# Altium integrated library Infineon_Power_Motor_Driver.IntLib: 100 symbols (part 4 of 7)
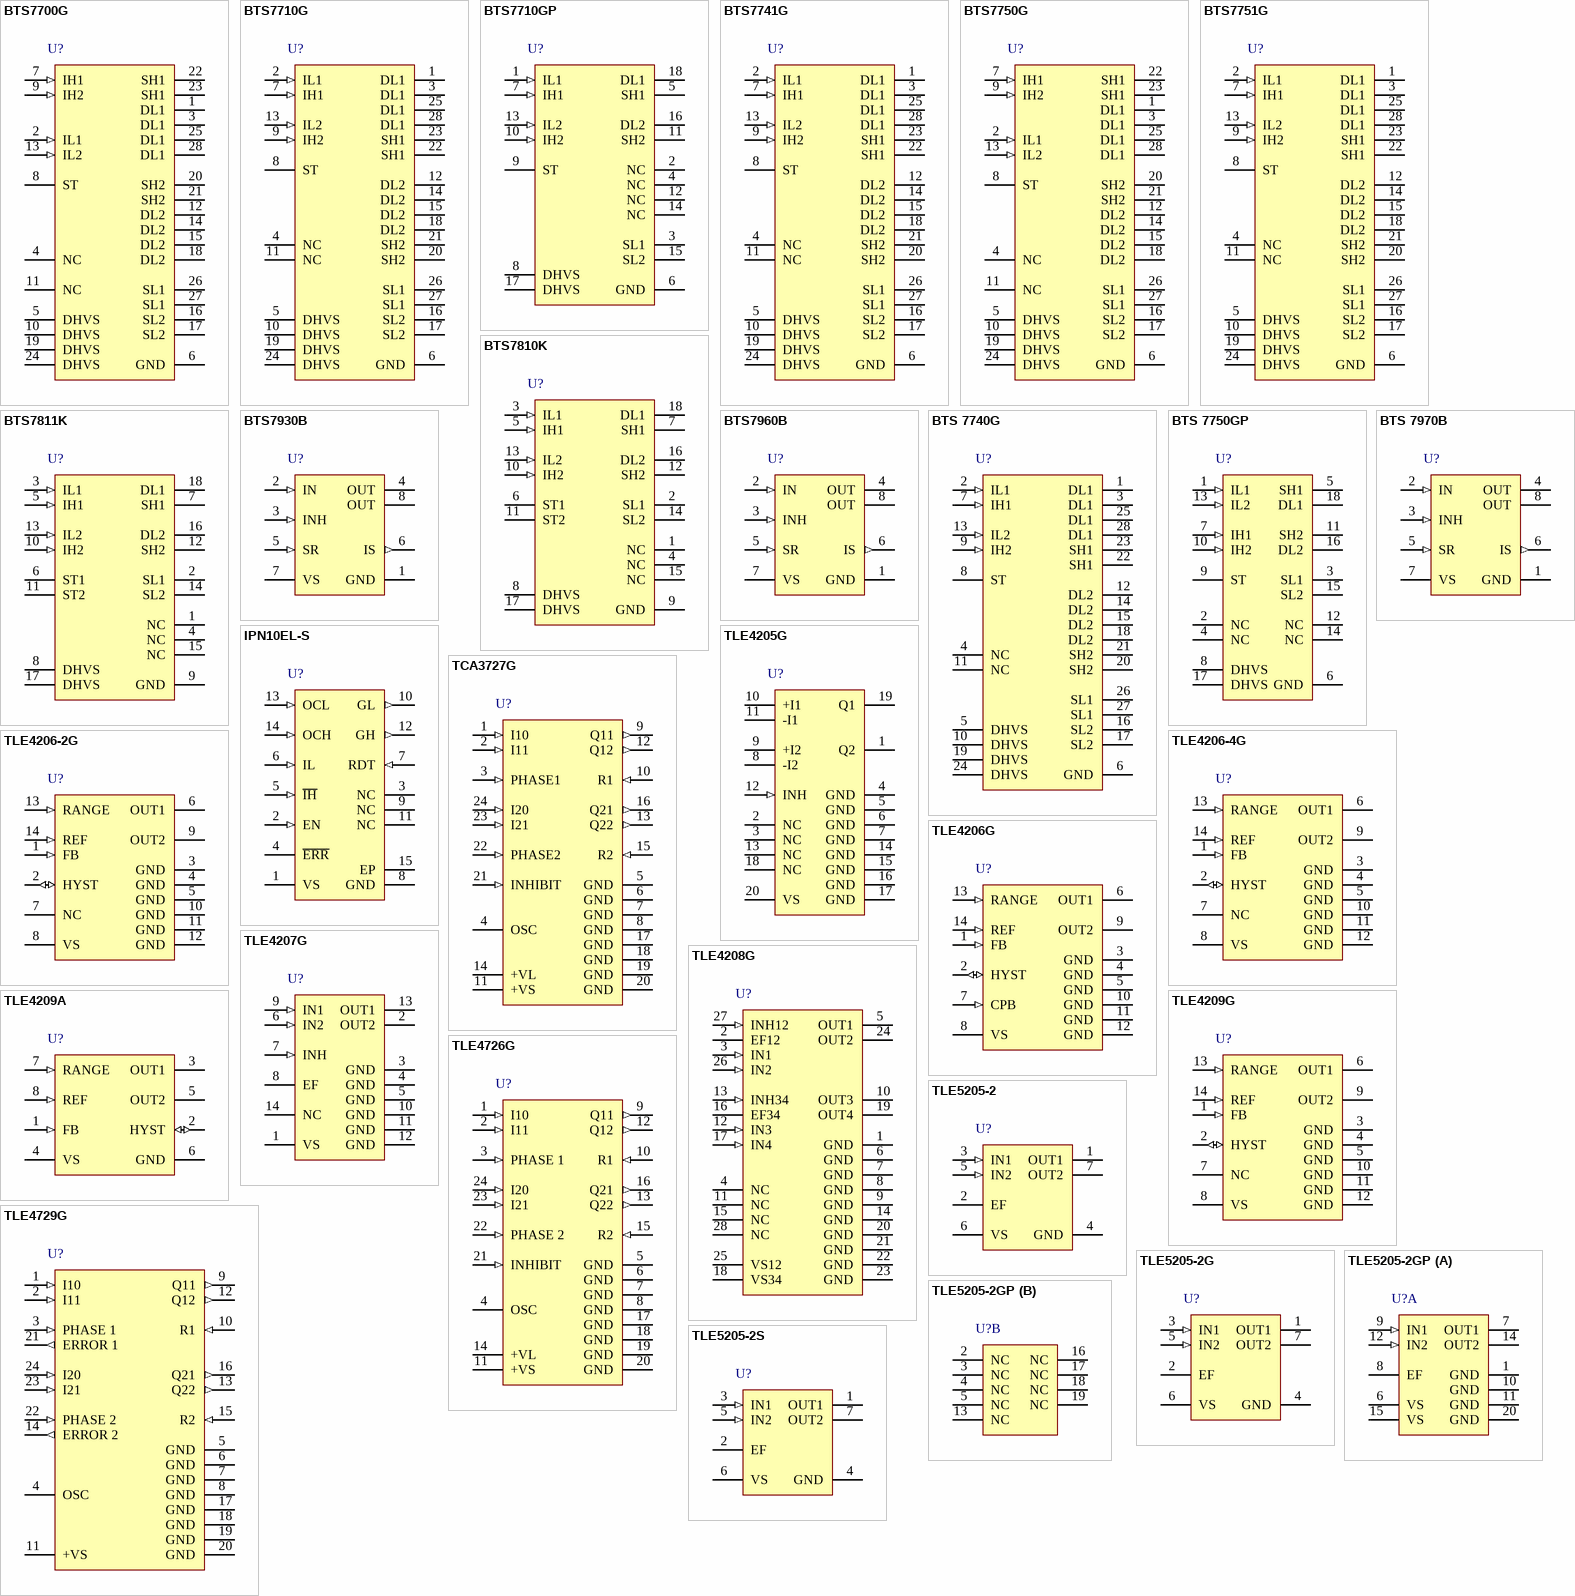
[diagram p7: symbols BTS7700G to TLE5205-2S]

## TLE4729G
designator U?
2-Phase Stepper Motor Driver Bipolar IC, -40 to 150 degC, PG-DSO-24-16, Reel, Green; Manufacturer: Infineon; PartNumber: TLE4729G; Green: TRUE; Inhibit: FALSE; IPeak: 2 x 1 A; Iq: 2 x 0.8 A; Protect: Overtemp. e.a.; DatasheetVersion: Rev. 1.2; PackageVersion: Mar-08; PackageReference: PG-DSO-24-16; PackageDescription: 24-Pin Plastic (Green) Dual Small Outline Package, 15.4 x 7.5 mm Body, 1.27 mm Pitch; Supplier 1: Mouser; Supplier Part Number 1: 726-TLE4729G; Supplier 2: Newark; Supplier Part Number 2: 47W3778; Supplier 3: Farnell; Supplier Part Number 3: 2215532; Supplier 4: Digi-Key; Supplier Part Number 4: TLE4729GINTR-ND; Supplier 5: Digi-Key; Supplier Part Number 5: TLE4729GINCT-ND; Supplier 6: Digi-Key; Supplier Part Number 6: TLE4729GINDKR-ND; Group: Stepper Motor Driver; Halogen-free: TRUE; Packing: Reel; Technology: Bipolar; Mounting Technology: Surface Mount; ComponentLink1Description: Manufacturer URL; ComponentLink1URL: http://www.infineon.com/; ComponentLink2Description: Datasheet; ComponentLink2URL: http://www.infineon.com/dgdl/DS_TLE4729G_Green_V1.2_2008-03-18.pdf?folderId=db3a3043156fd5730116144c5d101c30&fileId=db3a30431c48a312011c4c1099490019&location=en.Products.Automotive_ICs.Motor_Drivers__Automotive_.Integrated_Smart_Power_Motor_Drivers.DATASHEET.DS_TLE4729G_Green_V1.2_2008-03-18.pdf; ComponentLink3Description: Package Specification; ComponentLink3URL: http://www.infineon.com/dgdl/DS_TLE4729G_Green_V1.2_2008-03-18.pdf?folderId=db3a3043156fd5730116144c5d101c30&fileId=db3a30431c48a312011c4c1099490019&sId=db3a30433d68e984013d7c8a351f56f4
footprint INF-PG-DSO-24-16_N (SOP, 24-Leads, Body 15.4x7.5mm, Pitch 1.27mm, IPC Medium Density)
footprint INF-PG-DSO-24-16_L (SOP, 24-Leads, Body 15.4x7.5mm, Pitch 1.27mm, IPC High Density)
footprint INF-PG-DSO-24-16_M (SOP, 24-Leads, Body 15.4x7.5mm, Pitch 1.27mm, IPC Low Density)
pins: 1 I10 (in) "Digital control inputs IX0,IX1 for the magnitude of the current of the particular phase.", 2 I11 (in) "Digital control inputs IX0,IX1 for the magnitude of the current of the particular phase.", 3 PHASE 1 (in) "Input Phase 1; controls the current through phase winding 1. On H-potential the phase current flows from Q11 to Q12, on L-potential in the reverse direction.", 4 OSC "Oscillator; works at approx. 25 kHz if this pin is wired to ground across 2.2 nF.", 5 GND (power) "Ground; all pins are connected internally.", 6 GND (power) "Ground; all pins are connected internally.", 7 GND (power) "Ground; all pins are connected internally.", 8 GND (power) "Ground; all pins are connected internally.", 9 Q11 (out) "Push-pull outputs Q11, Q12 for phase 1 with integrated free-wheeling diodes.", 10 R1 (in) "Resistor R1  for sensing the current in phase 1.", 11 +VS (power) "Supply voltage; block to ground, as close as possible to the IC, with a stable electrolytic capacitor of at least 10 uF in parallel with a ceramic capacitor of 220 nF.", 12 Q12 (out) "Push-pull outputs Q11, Q12 for phase 1 with integrated free-wheeling diodes.", 13 Q22 (out) "Push-pull outputs Q22, Q21 for phase 2 with integrated free-wheeling diodes.", 14 ERROR 2 (out) "Error 2 output; signals with “low” the errors: short circuit to ground of  one or more outputs or over-temperature.", 15 R2 (in) "Resistor R2  for sensing the current in phase 2.", 16 Q21 (out) "Push-pull outputs Q22, Q21 for phase 2 with integrated free-wheeling diodes.", 17 GND (power) "Ground; all pins are connected internally.", 18 GND (power) "Ground; all pins are connected internally.", 19 GND (power) "Ground; all pins are connected internally.", 20 GND (power) "Ground; all pins are connected internally.", 21 ERROR 1 (out) "Error 1 output; signals with “low” the errors: open load or short circuit to  + VS of one or more outputs or short circuit of the load or overtemperature.", 22 PHASE 2 (in) "Input phase 2; controls the current flow through phase winding 2. On H-potential the phase current flows from Q21 to Q22, on L potential in the reverse direction.", 23 I21 (in) "Digital control inputs IX0,IX1 for the magnitude of the current of the particular phase.", 24 I20 (in) "Digital control inputs IX0,IX1 for the magnitude of the current of the particular phase."

## TLE5205-2
designator U?
5 A H-Bridge for DC-Motor Applications, 6 to 40 V, 220 mOhm RDS(on), PG-TO220-7-11, Tube, Green; Manufacturer: Infineon; PartNumber: TLE5205-2; Current Limit (min.): 6 A; Green: TRUE; Operating Range: 6 to 40 V; Quiescent Current (max.): 10 mA; RthJC (max): 3 K/W; DatasheetVersion: Rev. 1.1; PackageVersion: Jul-07; PackageReference: PG-TO220-7-11; PackageDescription: 7-Pin Plastic (Green) Transistor Single Outline Package, 10 x 9.25 mm Body, 1.27 mm Pitch; Supplier 1: Mouser; Supplier Part Number 1: 726-TLE52052; Supplier 2: Newark; Supplier Part Number 2: 47W3780; Supplier 3: Farnell; Supplier Part Number 3: 2215546; Supplier 4: Digi-Key; Supplier Part Number 4: TLE5205-2IN-ND; Halogen-free: TRUE; Packing: Tube; RDS (on) (typ./switch): 220 mOhm; Mounting Technology: Through Hole; ComponentLink1Description: Manufacturer URL; ComponentLink1URL: http://www.infineon.com/; ComponentLink2Description: Datasheet; ComponentLink2URL: http://www.infineon.com/dgdl/TLE5205-2_DS_11%5B1%5D.pdf?folderId=db3a30431b3e89eb011bb632994f065b&fileId=db3a30431f848401011fc747c7a0797f&location=en.Products.Automotive_ICs.Powertrain_ICs.Powertrain_H-Bridges_for_Electronic_Throttle_Control.DATASHEET.TLE5205-2_DS_11[1].pdf; ComponentLink3Description: Package Specification; ComponentLink3URL: http://www.infineon.com/dgdl/TLE5205-2_DS_11%5B1%5D.pdf?folderId=db3a30431b3e89eb011bb632994f065b&fileId=db3a30431f848401011fc747c7a0797f&sId=db3a30433d68e984013d7d43135b5b6a
footprint INF-PG-TO220-7-11 (FM, 7-Leads, Body 10x9.25mm, Pitch 1.27mm)
pins: 1 OUT1 (power) "Output of Channel 1; Short-circuit protected; integrated freewheeling diodes for inductive loads.", 2 EF (oc) "Error Flag; TTL/CMOS compatible output for error detection; (open drain)", 3 IN1 (in) "Control Input 1; TTL/CMOS compatible", 4 GND (power) "Ground; internally connected to tab", 5 IN2 (in) "Control Input 2; TTL/CMOS compatible", 6 VS (power) "Supply Voltage; block to GND", 7 OUT2 (power) "Output of Channel 2; Short-circuit protected; integrated freewheeling diodes for inductive loads."

## TLE5205-2G
designator U?
5 A H-Bridge for DC-Motor Applications, 6 to 40 V, 220 mOhm RDS(on), PG-TO263-7-1, Reel, Green; Manufacturer: Infineon; PartNumber: TLE5205-2G; Current Limit (min.): 6 A; Green: TRUE; Operating Range: 6 to 40 V; Quiescent Current (max.): 10 mA; RthJC (max): 3 K/W; DatasheetVersion: Rev. 1.1; PackageVersion: May-07; PackageReference: PG-TO263-7-1; PackageDescription: 7-Pin Plastic (Green) Transistor Single Outline Package, 9.25 x 10 mm Body, 1.27 mm Pitch; Supplier 1: Mouser; Supplier Part Number 1: 726-TLE52052G; Supplier 2: Newark; Supplier Part Number 2: 78X5470; Supplier 3: Farnell; Supplier Part Number 3: 2432520; Supplier 4: Digi-Key; Supplier Part Number 4: TLE5205-2GINTR-ND; Supplier 5: Digi-Key; Supplier Part Number 5: TLE5205-2GINCT-ND; Supplier 6: Digi-Key; Supplier Part Number 6: TLE5205-2GINDKR-ND; Halogen-free: TRUE; Packing: Reel; RDS (on) (typ./switch): 220 mOhm; Mounting Technology: Surface Mount; ComponentLink1Description: Manufacturer URL; ComponentLink1URL: http://www.infineon.com/; ComponentLink2Description: Datasheet; ComponentLink2URL: http://www.infineon.com/dgdl/TLE5205-2_DS_11%5B1%5D.pdf?folderId=db3a30431b3e89eb011bb632994f065b&fileId=db3a30431f848401011fc747c7a0797f&location=en.Products.Automotive_ICs.Powertrain_ICs.Powertrain_H-Bridges_for_Electronic_Throttle_Control.DATASHEET.TLE5205-2_DS_11[1].pdf; ComponentLink3Description: Package Specification; ComponentLink3URL: http://www.infineon.com/dgdl/TLE5205-2_DS_11%5B1%5D.pdf?folderId=db3a30431b3e89eb011bb632994f065b&fileId=db3a30431f848401011fc747c7a0797f&sId=db3a30433d68e984013d7d43135b5b6a
footprint INF-PG-TO263-7-1_N (DPAK, 8-Leads, Body 10x9.25mm, Pitch 1.27mm, IPC Medium Density)
footprint INF-PG-TO263-7-1_L (DPAK, 8-Leads, Body 10x9.25mm, Pitch 1.27mm, IPC High Density)
footprint INF-PG-TO263-7-1_M (DPAK, 8-Leads, Body 10x9.25mm, Pitch 1.27mm, IPC Low Density)
pins: 1 OUT1 (power) "Output of Channel 1; Short-circuit protected; integrated freewheeling diodes for inductive loads.", 2 EF (oc) "Error Flag; TTL/CMOS compatible output for error detection; (open drain)", 3 IN1 (in) "Control Input 1; TTL/CMOS compatible", 4 GND (power) "Ground; internally connected to tab", 5 IN2 (in) "Control Input 2; TTL/CMOS compatible", 6 VS (power) "Supply Voltage; block to GND", 7 OUT2 (power) "Output of Channel 2; Short-circuit protected; integrated freewheeling diodes for inductive loads."

## TLE5205-2GP
designator U?
5 A H-Bridge for DC-Motor Applications, 6 to 40 V, 220 mOhm RDS(on), PG-DSO-20-37, Reel, Green; Manufacturer: Infineon; PartNumber: TLE5205-2GP; Current Limit (min.): 6 A; Green: TRUE; Operating Range: 6 to 40 V; Quiescent Current (max.): 10 mA; RthJC (max): 5 K/W; DatasheetVersion: Rev. 1.1; PackageReference: PG-DSO-20-37; PackageDescription: 20-Pin Plastic (Green) Dual Small Outline Package, 15.9 x 11 mm Body, 1.27 mm Pitch; Supplier 1: Mouser; Supplier Part Number 1: 726-TLE52052GP; Supplier 2: Digi-Key; Supplier Part Number 2: TLE5205-2GPTR-ND; Supplier 3: Digi-Key; Supplier Part Number 3: TLE5205-2GPCT-ND; Supplier 4: Digi-Key; Supplier Part Number 4: TLE5205-2GPDKR-ND; Halogen-free: TRUE; Packing: Reel; RDS (on) (typ./switch): 220 mOhm; Mounting Technology: Surface Mount; ComponentLink1Description: Manufacturer URL; ComponentLink1URL: http://www.infineon.com/; ComponentLink2Description: Datasheet; ComponentLink2URL: http://www.infineon.com/dgdl/TLE5205-2_DS_11%5B1%5D.pdf?folderId=db3a30431b3e89eb011bb632994f065b&fileId=db3a30431f848401011fc747c7a0797f&location=en.Products.Automotive_ICs.Powertrain_ICs.Powertrain_H-Bridges_for_Electronic_Throttle_Control.DATASHEET.TLE5205-2_DS_11[1].pdf; ComponentLink3Description: Package Specification; ComponentLink3URL: http://www.infineon.com/cms/packages/SMD_-_Surface_Mounted_Devices/P-PG-DSO/P-PG-DSO-20-10x_-12x_-13x_-16x_-33x_-34x_-37x_-48x_-50.html?__locale=en
footprint INF-PG-DSO-20-37_N (SOP, 20-Leads, Body 15.9x11mm, Pitch 1.27mm, Thermal Pad 15.84x6mm, IPC Medium Density)
footprint INF-PG-DSO-20-37_L (SOP, 20-Leads, Body 15.9x11mm, Pitch 1.27mm, Thermal Pad 15.84x6mm, IPC High Density)
footprint INF-PG-DSO-20-37_M (SOP, 20-Leads, Body 15.9x11mm, Pitch 1.27mm, Thermal Pad 15.84x6mm, IPC Low Density)
part A pins: 1 GND (power) "Ground; internally connected to tab", 6 VS (power) "Supply Voltage; block to GND", 7 OUT1 (power) "Output of Channel 1; Short-circuit protected; integrated freewheeling diodes for inductive loads.", 8 EF (oc) "Error Flag; TTL/CMOS compatible output for error detection; (open drain)", 9 IN1 (in) "Control Input 1; TTL/CMOS compatible", 10 GND (power) "Ground; internally connected to tab", 11 GND (power) "Ground; internally connected to tab", 12 IN2 (in) "Control Input 2; TTL/CMOS compatible", 14 OUT2 (power) "Output of Channel 2; Short-circuit protected; integrated freewheeling diodes for inductive loads.", 15 VS (power) "Supply Voltage; block to GND", 20 GND (power) "Ground; internally connected to tab"
part B pins: 2 NC "Not Connected", 3 NC "Not Connected", 4 NC "Not Connected", 5 NC "Not Connected", 13 NC "Not Connected", 16 NC "Not Connected", 17 NC "Not Connected", 18 NC "Not Connected", 19 NC "Not Connected"

## TLE5205-2S
designator U?
5 A H-Bridge for DC-Motor Applications, 6 to 40 V, 220 mOhm RDS(on), PG-TO220-7-12, Tube, Green; Manufacturer: Infineon; PartNumber: TLE5205-2S; Current Limit (min.): 6 A; Green: TRUE; Operating Range: 6 to 40 V; Quiescent Current (max.): 10 mA; RthJC (max): 3 K/W; DatasheetVersion: Rev. 1.1; PackageVersion: Jul-07; PackageReference: PG-TO220-7-12; PackageDescription: 7-Pin Plastic (Green) Transistor Single Outline Package, 10 x 9.25 mm Body, 1.27 mm Pitch; Supplier 1: Mouser; Supplier Part Number 1: 726-TLE52052S; Supplier 2: Digi-Key; Supplier Part Number 2: TLE5205-2S-ND; Halogen-free: TRUE; Packing: Tube; RDS (on) (typ./switch): 220 mOhm; Mounting Technology: Through Hole; ComponentLink1Description: Manufacturer URL; ComponentLink1URL: http://www.infineon.com/; ComponentLink2Description: Datasheet; ComponentLink2URL: http://www.infineon.com/dgdl/TLE5205-2_DS_11%5B1%5D.pdf?folderId=db3a30431b3e89eb011bb632994f065b&fileId=db3a30431f848401011fc747c7a0797f&location=en.Products.Automotive_ICs.Powertrain_ICs.Powertrain_H-Bridges_for_Electronic_Throttle_Control.DATASHEET.TLE5205-2_DS_11[1].pdf; ComponentLink3Description: Package Specification; ComponentLink3URL: http://www.infineon.com/dgdl/TLE5205-2_DS_11%5B1%5D.pdf?folderId=db3a30431b3e89eb011bb632994f065b&fileId=db3a30431f848401011fc747c7a0797f&sId=db3a30433d68e984013d7d43135b5b6a
footprint INF-PG-TO220-7-12 (FM, 7-Leads, Body 10x4.4mm, Pitch 1.27mm)
pins: 1 OUT1 (power) "Output of Channel 1; Short-circuit protected; integrated freewheeling diodes for inductive loads.", 2 EF (oc) "Error Flag; TTL/CMOS compatible output for error detection; (open drain)", 3 IN1 (in) "Control Input 1; TTL/CMOS compatible", 4 GND (power) "Ground; internally connected to tab", 5 IN2 (in) "Control Input 2; TTL/CMOS compatible", 6 VS (power) "Supply Voltage; block to GND", 7 OUT2 (power) "Output of Channel 2; Short-circuit protected; integrated freewheeling diodes for inductive loads."

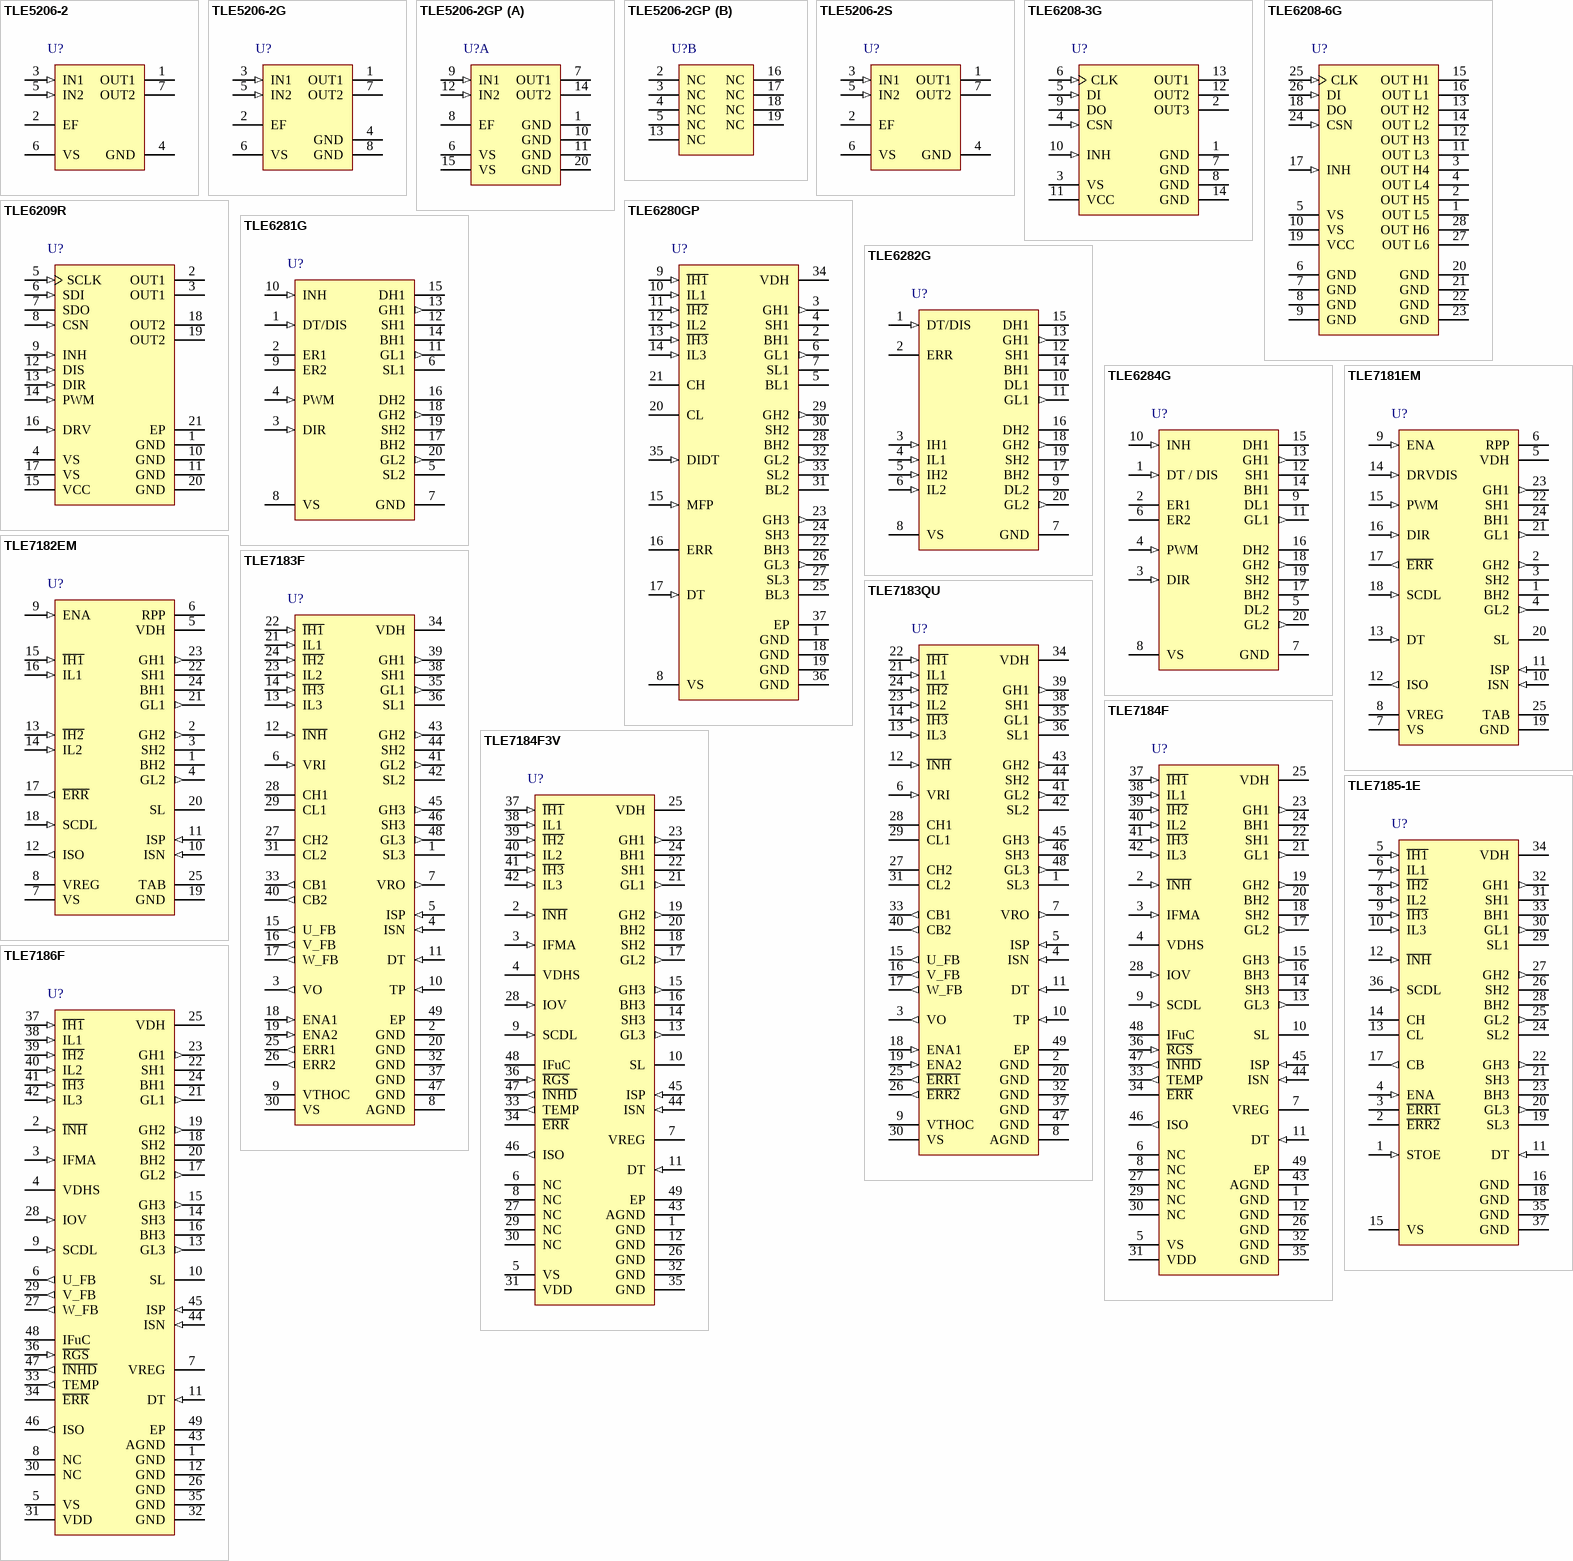
[diagram p2: symbols TLE5206-2 to TLE7186F]

## TLE5206-2
designator U?
5 A H-Bridge for DC-Motor Applications, 6 to 40 V, 220 mOhm RDS(on), PG-TO220-7-11, Tube, Green; Manufacturer: Infineon; PartNumber: TLE5206-2; Current Limit (min.): 6 A; Green: TRUE; Operating Range: 6 to 40 V; Quiescent Current (max.): 10 mA; RthJC (max): 3 K/W; DatasheetVersion: Rev. 1.1; PackageVersion: Jul-07; PackageReference: PG-TO220-7-11; PackageDescription: 7-Pin Plastic (Green) Transistor Single Outline Package, 10 x 9.25 mm Body, 1.27 mm Pitch; Supplier 1: Mouser; Supplier Part Number 1: 726-TLE52062; Supplier 2: Newark; Supplier Part Number 2: 47W3781; Supplier 3: Farnell; Supplier Part Number 3: 2215547; Supplier 4: Digi-Key; Supplier Part Number 4: TLE5206-2IN-ND; Halogen-free: TRUE; Packing: Tube; RDS (on) (typ./switch): 220 mOhm; Mounting Technology: Through Hole; ComponentLink1Description: Manufacturer URL; ComponentLink1URL: http://www.infineon.com/; ComponentLink2Description: Datasheet; ComponentLink2URL: http://www.infineon.com/dgdl/TLE5206-2_DS_11%5B1%5D.pdf?folderId=db3a30431b3e89eb011bb632994f065b&fileId=db3a30431f848401011fc753a71779a7&location=en.Products.Automotive_ICs.Powertrain_ICs.Powertrain_H-Bridges_for_Electronic_Throttle_Control.DATASHEET.TLE5206-2_DS_11[1].pdf; ComponentLink3Description: Package Specification; ComponentLink3URL: http://www.infineon.com/dgdl/TLE5205-2_DS_11%5B1%5D.pdf?folderId=db3a30431b3e89eb011bb632994f065b&fileId=db3a30431f848401011fc747c7a0797f&sId=db3a30433d68e984013d7d43135b5b6a
footprint INF-PG-TO220-7-11 (FM, 7-Leads, Body 10x9.25mm, Pitch 1.27mm)
pins: 1 OUT1 (power) "Output of Channel 1; Short-circuit protected; integrated freewheeling diodes for inductive loads.", 2 EF (oc) "Error Flag; TTL/CMOS compatible output for error detection; (open drain)", 3 IN1 (in) "Control Input 1; TTL/CMOS compatible", 4 GND (power) "Ground; internally connected to tab", 5 IN2 (in) "Control Input 2; TTL/CMOS compatible", 6 VS (power) "Supply Voltage; block to GND", 7 OUT2 (power) "Output of Channel 2; Short-circuit protected; integrated freewheeling diodes for inductive loads."

## TLE5206-2G
designator U?
5 A H-Bridge for DC-Motor Applications, 6 to 40 V, 220 mOhm RDS(on), PG-TO263-7-1, Reel, Green; Manufacturer: Infineon; PartNumber: TLE5206-2G; Current Limit (min.): 6 A; Green: TRUE; Operating Range: 6 to 40 V; Quiescent Current (max.): 10 mA; RthJC (max): 3 K/W; DatasheetVersion: Rev. 1.1; PackageVersion: May-07; PackageReference: PG-TO263-7-1; PackageDescription: 7-Pin Plastic (Green) Transistor Single Outline Package, 9.25 x 10 mm Body, 1.27 mm Pitch; Supplier 1: Mouser; Supplier Part Number 1: 726-TLE52062G; Supplier 2: Digi-Key; Supplier Part Number 2: TLE5206-2GTR-ND; Supplier 3: Digi-Key; Supplier Part Number 3: TLE5206-2GCT-ND; Supplier 4: Digi-Key; Supplier Part Number 4: TLE5206-2GDKR-ND; Halogen-free: TRUE; Packing: Reel; RDS (on) (typ./switch): 220 mOhm; Mounting Technology: Surface Mount; ComponentLink1Description: Manufacturer URL; ComponentLink1URL: http://www.infineon.com/; ComponentLink2Description: Datasheet; ComponentLink2URL: http://www.infineon.com/dgdl/TLE5206-2_DS_11%5B1%5D.pdf?folderId=db3a30431b3e89eb011bb632994f065b&fileId=db3a30431f848401011fc753a71779a7&location=en.Products.Automotive_ICs.Powertrain_ICs.Powertrain_H-Bridges_for_Electronic_Throttle_Control.DATASHEET.TLE5206-2_DS_11[1].pdf; ComponentLink3Description: Package Specification; ComponentLink3URL: http://www.infineon.com/dgdl/TLE5205-2_DS_11%5B1%5D.pdf?folderId=db3a30431b3e89eb011bb632994f065b&fileId=db3a30431f848401011fc747c7a0797f&sId=db3a30433d68e984013d7d43135b5b6a
footprint INF-PG-TO263-7-1_N (DPAK, 8-Leads, Body 10x9.25mm, Pitch 1.27mm, IPC Medium Density)
footprint INF-PG-TO263-7-1_L (DPAK, 8-Leads, Body 10x9.25mm, Pitch 1.27mm, IPC High Density)
footprint INF-PG-TO263-7-1_M (DPAK, 8-Leads, Body 10x9.25mm, Pitch 1.27mm, IPC Low Density)
pins: 1 OUT1 (power) "Output of Channel 1; Short-circuit protected; integrated freewheeling diodes for inductive loads", 2 EF (oc) "Error Flag; TTL/CMOS compatible output for error detection; (open drain)", 3 IN1 (in) "Control Input 1; TTL/CMOS compatible", 4 GND (power) "Ground; internally connected to tab", 5 IN2 (in) "Control Input 2; TTL/CMOS compatible", 6 VS (power) "Supply Voltage; block to GND", 7 OUT2 (power) "Output of Channel 2; Short-circuit protected;  integrated freewheeling diodes for inductive loads.", 8 GND (power) "Ground; internally connected to tab"

## TLE5206-2GP
designator U?
5 A H-Bridge for DC-Motor Applications, 6 to 40 V, 220 mOhm RDS(on), PG-DSO-20-37, Reel, Green; Manufacturer: Infineon; PartNumber: TLE5206-2GP; Current Limit (min.): 6 A; Green: TRUE; Operating Range: 6 to 40 V; Quiescent Current (max.): 10 mA; RthJC (max): 5 K/W; DatasheetVersion: Rev. 1.1; PackageReference: PG-DSO-20-37; PackageDescription: 20-Pin Plastic (Green) Dual Small Outline Package, 15.9 x 11 mm Body, 1.27 mm Pitch; Supplier 1: Mouser; Supplier Part Number 1: 726-TLE5206-2GP; Supplier 2: Digi-Key; Supplier Part Number 2: TLE5206-2GP-ND; Halogen-free: TRUE; Packing: Reel; RDS (on) (typ./switch): 220 mOhm; Mounting Technology: Surface Mount; ComponentLink1Description: Manufacturer URL; ComponentLink1URL: http://www.infineon.com/; ComponentLink2Description: Datasheet; ComponentLink2URL: http://www.infineon.com/dgdl/TLE5206-2_DS_11%5B1%5D.pdf?folderId=db3a30431b3e89eb011bb632994f065b&fileId=db3a30431f848401011fc753a71779a7&location=en.Products.Automotive_ICs.Powertrain_ICs.Powertrain_H-Bridges_for_Electronic_Throttle_Control.DATASHEET.TLE5206-2_DS_11[1].pdf; ComponentLink3Description: Package Specification; ComponentLink3URL: http://www.infineon.com/cms/packages/SMD_-_Surface_Mounted_Devices/P-PG-DSO/P-PG-DSO-20-10x_-12x_-13x_-16x_-33x_-34x_-37x_-48x_-50.html?__locale=en
footprint INF-PG-DSO-20-37_N (SOP, 20-Leads, Body 15.9x11mm, Pitch 1.27mm, Thermal Pad 15.84x6mm, IPC Medium Density)
footprint INF-PG-DSO-20-37_L (SOP, 20-Leads, Body 15.9x11mm, Pitch 1.27mm, Thermal Pad 15.84x6mm, IPC High Density)
footprint INF-PG-DSO-20-37_M (SOP, 20-Leads, Body 15.9x11mm, Pitch 1.27mm, Thermal Pad 15.84x6mm, IPC Low Density)
part A pins: 1 GND (power) "Ground; internally connected to tab", 6 VS (power) "Supply Voltage; block to GND", 7 OUT1 (power) "Output of Channel 1; Short-circuit protected; integrated freewheeling diodes for inductive loads.", 8 EF (oc) "Error Flag; TTL/CMOS compatible output for error detection; (open drain)", 9 IN1 (in) "Control Input 1; TTL/CMOS compatible", 10 GND (power) "Ground; internally connected to tab", 11 GND (power) "Ground; internally connected to tab", 12 IN2 (in) "Control Input 2; TTL/CMOS compatible", 14 OUT2 (power) "Output of Channel 2; Short-circuit protected; integrated freewheeling diodes for inductive loads.", 15 VS (power) "Supply Voltage; block to GND", 20 GND (power) "Ground; internally connected to tab"
part B pins: 2 NC "Not Connected", 3 NC "Not Connected", 4 NC "Not Connected", 5 NC "Not Connected", 13 NC "Not Connected", 16 NC "Not Connected", 17 NC "Not Connected", 18 NC "Not Connected", 19 NC "Not Connected"

## TLE5206-2S
designator U?
5 A H-Bridge for DC-Motor Applications, 6 to 40 V, 220 mOhm RDS(on), PG-TO220-7-12, Tube, Green; Manufacturer: Infineon; PartNumber: TLE5206-2S; Current Limit (min.): 6 A; Green: TRUE; Operating Range: 6 to 40 V; Quiescent Current (max.): 10 mA; RthJC (max): 3 K/W; DatasheetVersion: Rev. 1.1; PackageVersion: Jul-07; PackageReference: PG-TO220-7-12; PackageDescription: 7-Pin Plastic (Green) Transistor Single Outline Package, 10 x 9.25 mm Body, 1.27 mm Pitch; Supplier 1: Mouser; Supplier Part Number 1: 726-TLE52062S; Supplier 2: Newark; Supplier Part Number 2: 47W3782; Supplier 3: Farnell; Supplier Part Number 3: 2215549; Supplier 4: Digi-Key; Supplier Part Number 4: TLE5206-2S-ND; Halogen-free: TRUE; Packing: Tube; RDS (on) (typ./switch): 220 mOhm; Mounting Technology: Through Hole; ComponentLink1Description: Manufacturer URL; ComponentLink1URL: http://www.infineon.com/; ComponentLink2Description: Datasheet; ComponentLink2URL: http://www.infineon.com/dgdl/TLE5206-2_DS_11%5B1%5D.pdf?folderId=db3a30431b3e89eb011bb632994f065b&fileId=db3a30431f848401011fc753a71779a7&location=en.Products.Automotive_ICs.Powertrain_ICs.Powertrain_H-Bridges_for_Electronic_Throttle_Control.DATASHEET.TLE5206-2_DS_11[1].pdf; ComponentLink3Description: Package Specification; ComponentLink3URL: http://www.infineon.com/dgdl/TLE5205-2_DS_11%5B1%5D.pdf?folderId=db3a30431b3e89eb011bb632994f065b&fileId=db3a30431f848401011fc747c7a0797f&sId=db3a30433d68e984013d7d43135b5b6a
footprint INF-PG-TO220-7-12 (FM, 7-Leads, Body 10x4.4mm, Pitch 1.27mm)
pins: 1 OUT1 (power) "Output of Channel 1; Short-circuit protected; integrated freewheeling diodes for inductive loads.", 2 EF (oc) "Error Flag; TTL/CMOS compatible output for error detection; (open drain)", 3 IN1 (in) "Control Input 1; TTL/CMOS compatible", 4 GND (power) "Ground; internally connected to tab", 5 IN2 (in) "Control Input 2; TTL/CMOS compatible", 6 VS (power) "Supply Voltage; block to GND", 7 OUT2 (power) "Output of Channel 2; Short-circuit protected; integrated freewheeling diodes for inductive loads."

## TLE6208-3G
designator U?
Triple Half-Bridge Driver IC, -40 to 150 degC, PG-DSO-14-35, Reel, Green; Manufacturer: Infineon; PartNumber: TLE6208-3G; Green: TRUE; Group: Multi Half Bridges; IPeak: 3 x 1.2 A; Iq: 3 x 0.6 A; Iq (typ): 10 uA; Protect: short circuit e.a.; DatasheetVersion: Rev. 1.1; PackageVersion: Sep-07; PackageReference: PG-DSO-14-35; PackageDescription: 14-Pin Plastic (Green) Dual Small Outline Package, 8.65 x 3.9 mm Body, 1.27 mm Pitch; Supplier 1: Mouser; Supplier Part Number 1: 726-TLE62083G; Supplier 2: Digi-Key; Supplier Part Number 2: TLE6208-3GTR-ND; Supplier 3: Digi-Key; Supplier Part Number 3: TLE6208-3GCT-ND; Supplier 4: Digi-Key; Supplier Part Number 4: TLE6208-3GDKR-ND; Halogen-free: TRUE; Inhibit: TRUE; Packing: Reel; Technology: BCD; Mounting Technology: Surface Mount; ComponentLink1Description: Manufacturer URL; ComponentLink1URL: http://www.infineon.com/; ComponentLink2Description: Datasheet; ComponentLink2URL: http://www.infineon.com/dgdl/TLE6208-3G_DS_11.pdf?folderId=db3a3043156fd5730116144c5d101c30&fileId=db3a30431c48a312011c4b9607517fea&location=en.Products.Automotive_ICs.Motor_Drivers__Automotive_.Integrated_Smart_Power_Motor_Drivers.DATASHEET.TLE6208-3G_DS_11.pdf; ComponentLink3Description: Package Specification; ComponentLink3URL: http://www.infineon.com/dgdl/TLE6208-3G_DS_11.pdf?folderId=db3a3043156fd5730116144c5d101c30&fileId=db3a30431c48a312011c4b9607517fea&sId=db3a30443d67b5ca013d7fd417892bf0
footprint INF-PG-DSO-14-35_N (SOP, 14-Leads, Body 8.65x3.9mm, Pitch 1.27mm, IPC Medium Density)
footprint INF-PG-DSO-14-35_L (SOP, 14-Leads, Body 8.65x3.9mm, Pitch 1.27mm, IPC High Density)
footprint INF-PG-DSO-14-35_M (SOP, 14-Leads, Body 8.65x3.9mm, Pitch 1.27mm, IPC Low Density)
pins: 1 GND (power) "Ground; Reference potential; internal connection to pin 7, 8 and 14; cooling tab; to reduce thermal resistance place cooling areas on PCB close to these pins.", 2 OUT3 (power) "Halfbridge-Output 3;Internally contected to Highside-Switch 3 and Lowside-Switch 3. The HS-Switch is a Power-MOS open drain with internal reverse diode; The LS-Switch is a Power-MOS open source with internal reverse diode; (See Datasheet)", 3 VS (power) "Power Supply; needs a blocking capacitor as close as possible to GND Value: 22 uF electrolytic in parallel to 220 nF ceramic.", 4 CSN (in) "Chip-Select-Not Input; CSN is an active low input; serial communication is enabled by pulling the CSN terminal low; CSN input should only be transitioned when CLK is low; CSN has an internal active pull up and requires CMOS (See Datasheet)", 5 DI (in) "Serial Data Input; receives serial data from the control device; serial data transmitted to DI is an 16bit control word with the Least Significant Bit (LSB) being transferred first: the input has an active pull down and (See Datasheet)", 6 CLK (in) "Serial Clock Input; clocks the shiftregister; CLK has an internal active pull down and requires CMOS logic level inputs.", 7 GND (power) "Ground; Reference potential; internal connection to pin 7, 8 and 14; cooling tab; to reduce thermal resistance place cooling areas on PCB close to these pins.", 8 GND (power) "Ground; Reference potential; internal connection to pin 7, 8 and 14; cooling tab; to reduce thermal resistance place cooling areas on PCB close to these pins.", 9 DO (hiz) "Serial-Data-Output; this 3-state output transfers diagnosis data to the control device; the output will remain 3-stated unless the device is selected by a low on Chip-Select-Not (CSN); see Table Diagnosis Data Protocol.", 10 INH (in) "Inhibit Input; has an internal pull down; device is switched in standby condition by pulling the INH terminal low.", 11 VCC (power) "Logic Supply Voltage; needs a blocking capacitor as close as possible to GND; Value: 10 µF electrolytic in parallel to 220 nF ceramic.", 12 OUT2 (power) "Halfbridge-Output 2;Internally contected to Highside-Switch 2 and Lowside-Switch 2. The HS-Switch is a Power-MOS open drain with internal reverse diode; The LS-Switch is a Power-MOS open source with internal reverse diode; (See Datasheet)", 13 OUT1 (power) "Halfbridge-Output 1;Internally contected to Highside-Switch 1 and Lowside-Switch 1. The HS-Switch is a Power-MOS open drain with internal reverse diode; The LS-Switch is a Power-MOS open source with internal reverse diode; (See Datasheet)", 14 GND (power) "Ground; Reference potential; internal connection to pin 7, 8 and 14; cooling tab; to reduce thermal resistance place cooling areas on PCB close to these pins."

## TLE6208-6G
designator U?
Hex-Half-Bridge / Double Six-Driver, -40 to 150 degC, PG-DSO-28-24, Reel, Green; Manufacturer: Infineon; PartNumber: TLE6208-6G; Green: TRUE; Group: Multi Half Bridges; IPeak: 6 x 1 A; Iq: 6 x 0.6 A; Iq (typ): 10 uA; Protect: short circuit e.a.; DatasheetVersion: Rev. 1.1; PackageVersion: Sep-07; PackageReference: PG-DSO-28-24; PackageDescription: 28-Pin Plastic (Green) Dual Small Outline Package, 17.9 x 7.5 mm Body, 1.27 mm Pitch; Supplier 1: Mouser; Supplier Part Number 1: 726-TLE62086G; Supplier 2: Newark; Supplier Part Number 2: 78X5471; Supplier 3: Farnell; Supplier Part Number 3: 2432521; Supplier 4: Digi-Key; Supplier Part Number 4: TLE6208-6GINTR-ND; Supplier 5: Digi-Key; Supplier Part Number 5: TLE6208-6GINCT-ND; Supplier 6: Digi-Key; Supplier Part Number 6: TLE6208-6GINDKR-ND; Halogen-free: TRUE; Inhibit: TRUE; Packing: Reel; Technology: BCD; Mounting Technology: Surface Mount; ComponentLink1Description: Manufacturer URL; ComponentLink1URL: http://www.infineon.com/; ComponentLink2Description: Datasheet; ComponentLink2URL: http://www.infineon.com/dgdl/TLE6208-6G_DS_11.pdf?folderId=db3a3043156fd5730116144c5d101c30&fileId=db3a30431c48a312011c4c052072000c&location=en.Products.Automotive_ICs.Motor_Drivers__Automotive_.Integrated_Smart_Power_Motor_Drivers.DATASHEET.TLE6208-6G_DS_11.pdf; ComponentLink3Description: Package Specification; ComponentLink3URL: http://www.infineon.com/dgdl/TLE6208-6G_DS_11.pdf?folderId=db3a3043156fd5730116144c5d101c30&fileId=db3a30431c48a312011c4c052072000c&sId=db3a30443d67b5ca013d7dc955b12863
footprint INF-PG-DSO-28-24_N (SOP, 28-Leads, Body 17.9x7.5mm, Pitch 1.27mm, IPC Medium Density)
footprint INF-PG-DSO-28-24_L (SOP, 28-Leads, Body 17.9x7.5mm, Pitch 1.27mm, IPC High Density)
footprint INF-PG-DSO-28-24_M (SOP, 28-Leads, Body 17.9x7.5mm, Pitch 1.27mm, IPC Low Density)
pins: 1 OUT L5 (hiz) "Low-Side-Output 5; Power-MOS open drain with internal reverse diode; no internal clamp diode or active zenering; short circuit protected and open load controlled.", 2 OUT H5 (hiz) "High-Side-Output 5; Power-MOS open source with internal reverse diode; no internal clamp diode or active zenering; short circuit protected and open load controlled.", 3 OUT H4 (hiz) "High-Side-Output 4; see pin2.", 4 OUT L4 (hiz) "Low-Side-Output 4; see pin1.", 5 VS (power) "Power supply; external connection to pin 10 necessary; needs a blocking capacitor as close as possible to GND Value: 22 uF electrolytic in parallel to 220 nF ceramic.", 6 GND (power) "Ground; Reference potential; internal connection to pin 20, 21, 22 and 23; cooling tab; to reduce thermal resistance; place cooling areas on PCB close to this pins.", 7 GND (power) "Ground; Reference potential; internal connection to pin 20, 21, 22 and 23; cooling tab; to reduce thermal resistance; place cooling areas on PCB close to this pins.", 8 GND (power) "Ground; Reference potential; internal connection to pin 20, 21, 22 and 23; cooling tab; to reduce thermal resistance; place cooling areas on PCB close to this pins.", 9 GND (power) "Ground; Reference potential; internal connection to pin 20, 21, 22 and 23; cooling tab; to reduce thermal resistance; place cooling areas on PCB close to this pins.", 10 VS (power) "Power Supply; see pin 5.", 11 OUT L3 (hiz) "Low-Side-Output 3; see pin1.", 12 OUT H3 (hiz) "High-Side-Output 3; see pin2.", 13 OUT H2 (hiz) "High-Side-Output 2; see pin2.", 14 OUT L2 (hiz) "Low-Side-Output 2; see pin1.", 15 OUT H1 (hiz) "High-Side-Output 1; see pin2.", 16 OUT L1 (hiz) "Low-Side-Output 1; see pin1.", 17 INH (in) "Inhibit input; has an internal pull down; device is switched in standby condition by pulling the INH terminal low.", 18 DO (hiz) "Serial-Data-Output; this 3-state output transfers diagnosis data to the control device; the output will remain 3-stated unless the device is selected by a low on Chip-Select-Not (CSN); see Table 2 for Diagnosis protocol.", 19 VCC (power) "Logic supply voltage; needs a blocking capacitor as close as possible to GND; Value: 10 uF electrolytic in parallel to 220 nF ceramic.", 20 GND (power) "Ground", 21 GND (power) "Ground", 22 GND (power) "Ground", 23 GND (power) "Ground", 24 CSN (in) "Chip-Select-Not input; CSN is an active low input; serial communication is enabled by pulling the CSN terminal low; CSN input should only be transitioned when CLK is low; CSN has an internal active pull up and requires CMOS (See Datasheet)", 25 CLK (in) "Serial clock input; clocks the shiftregister; CLK has an internal active pull down and requires CMOS logic level inputs.", 26 DI (in) "Serial data input; receives serial data from the control device; serial data transmitted to DI is an 16bit control word with the Least Significant Bit (LSB) being transferred first: the input has an active pull down and (See Datasheet)", 27 OUT L6 (hiz) "Low-Side-Output 6; see pin1.", 28 OUT H6 (hiz) "High-Side-Output 6; see pin2."

## TLE6209R
designator U?
7 A H-Bridge for DC-Motor Applications, 5.2 to 40 V, 140 mOhm RDS(on), PG-DSO-20-37, Reel, Green; Manufacturer: Infineon; PartNumber: TLE6209R; Current Limit (min.): 5.95 A; Green: TRUE; Quiescent Current (max.): 50 uA; RthJC (max): 1.5 K/W; DatasheetVersion: Rev. 3.2; PackageReference: PG-DSO-20-37; PackageDescription: 20-Pin Plastic (Green) Dual Small Outline Package, 15.9 x 11 mm Body, 1.27 mm Pitch; Supplier 1: Newark; Supplier Part Number 1: 78X5472; Supplier 2: Farnell; Supplier Part Number 2: 2432522; Supplier 3: Digi-Key; Supplier Part Number 3: TLE6209RTR-ND; Supplier 4: Digi-Key; Supplier Part Number 4: TLE6209RCT-ND; Supplier 5: Digi-Key; Supplier Part Number 5: TLE6209RDKR-ND; Halogen-free: TRUE; Operating Range: 5.2 to 40 V; Packing: Reel; RDS (on) (typ./switch): 140 mOhm; Mounting Technology: Surface Mount; ComponentLink1Description: Manufacturer URL; ComponentLink1URL: http://www.infineon.com/; ComponentLink2Description: Datasheet; ComponentLink2URL: http://www.infineon.com/dgdl/TLE6209R-Data+Sheet-Infineon-v32.pdf?folderId=db3a304412b407950112b43826126a5a&fileId=db3a304412b407950112b43826986a5b&sId=db3a30433d68e984013d7d39259a5b47; ComponentLink3Description: Package Specification; ComponentLink3URL: http://www.infineon.com/cms/packages/SMD_-_Surface_Mounted_Devices/P-PG-DSO/P-PG-DSO-20-10x_-12x_-13x_-16x_-33x_-34x_-37x_-48x_-50.html?__locale=en
footprint INF-PG-DSO-20-37_N (SOP, 20-Leads, Body 15.9x11mm, Pitch 1.27mm, Thermal Pad 15.84x6mm, IPC Medium Density)
footprint INF-PG-DSO-20-37_L (SOP, 20-Leads, Body 15.9x11mm, Pitch 1.27mm, Thermal Pad 15.84x6mm, IPC High Density)
footprint INF-PG-DSO-20-37_M (SOP, 20-Leads, Body 15.9x11mm, Pitch 1.27mm, Thermal Pad 15.84x6mm, IPC Low Density)
pins: 1 GND (power) "Ground; internally connected to cooling tab (heat slug); to reduce  thermal resistance place cooling areas and thermal vias on PCB.", 2 OUT1 (power) "Output 1; output of D-MOS half bridge 1; external connection  between pin 2 and pin 3 is necessary.", 3 OUT1 (power) "Output 1; output of D-MOS half bridge 1; external connection  between pin 2 and pin 3 is necessary.", 4 VS (power) "Power supply; needs a blocking capacitor as close as possible to  GND; 47 uF electrolytic in parallel to 220 nF ceramic is  recommended; external connection between pin 4 and pin 17 is  necessary.", 5 SCLK (in) "Serial clock input; clocks the shiftregister; SCLK has an internal  active pull down and requires CMOS logic levels", 6 SDI (in) "Serial data input; receives serial data from the control device;  serial data transmitted to SDI is an 8 bit control word with the Least  Significant Bit (LSB) being transferred first; the input has an active  pull down and (See Datasheet)", 7 SDO (hiz) "Serial-Data-Output; this tri-state output transfers diagnosis data to  the control device; the output will remain tri-stated unless the device  is selected by a low on Chip-Select-Not (CSN); SDO state changes  on the rising (See Datasheet)", 8 CSN (in) "Chip-Select-Not input; CSN is an active low input; serial  communication is enabled by pulling the CSN terminal low; CSN  input should only be transitioned when SCLK is low; CSN has an  internal active pull up and requires (See Datasheet)", 9 INH (in) "Inhibit input; has an internal pull down; device is switched in  standby condition by pulling the INH terminal low.", 10 GND (power) "Ground; internally connected to cooling tab (heat slug); to reduce  thermal resistance place cooling areas and thermal vias on PCB.", 11 GND (power) "Ground; internally connected to cooling tab (heat slug); to reduce  thermal resistance place cooling areas and thermal vias on PCB.", 12 DIS (in) "Disable input; has an internal pull up; the output stages are  switched in tristate condition by pulling the DIS terminal high", 13 DIR (in) "Direction input; has an internal pull down; TTL/CMOS compatible  input", 14 PWM (in) "PWM input; has an internal pull down; TTL/CMOS compatible  input.", 15 VCC (power) "Logic supply voltage; needs a blocking capacitor as close as  possible to GND; 10 uF electrolytic in parallel to 220 nF ceramic is  recommended.", 16 DRV (in) "Drive; Input for external charge pump capacitor CDRV", 17 VS (power) "Power supply; needs a blocking capacitor as close as possible to  GND; 47 uF electrolytic in parallel to 220 nF ceramic is  recommended; external connection between pin 4 and pin 17 is  necessary.", 18 OUT2 (power) "Output 2; output of D-MOS half bridge 2; external connection  between pin 2 and pin 3 is necessary.", 19 OUT2 (power) "Output 2; output of D-MOS half bridge 2; external connection  between pin 2 and pin 3 is necessary.", 20 GND (power) "Ground; internally connected to cooling tab (heat slug); to reduce  thermal resistance place cooling areas and thermal vias on PCB.", 21 EP (power)

## TLE6280GP
designator U?
3-Phase Bridge Driver IC , 8 to 36 V, 12 mA Iq, -40 to 150 degC, PG-DSO-36-26, Reel, Green; Manufacturer: Infineon; PartNumber: TLE6280GP; Adjustable dead time: TRUE; D.C. Range @ 20kHz: 0...95%; Diagnosis: UV, SCD, OT; Iq: 12 mA; Integrated OPAMPs for load current measurement: 0; Operating Range: 8 to 36 V; Turn on/off Current: 0.9 / 0.85 A; DatasheetVersion: Rev. 2.0; PackageVersion: Aug-09; PackageReference: PG-DSO-36-26; PackageDescription: 36-Pin Plastic (Green) Dual Small Outline Package, 15.9 x 11 mm Body, 0.65 mm Pitch; Supplier 1: Mouser; Supplier Part Number 1: 726-TLE6280GP; Supplier 2: Digi-Key; Supplier Part Number 2: TLE6280GPTR-ND; Supplier 3: Digi-Key; Supplier Part Number 3: TLE6280GPCT-ND; Supplier 4: Digi-Key; Supplier Part Number 4: TLE6280GPDKR-ND; Adjustable short circuit detection: TRUE; Green: TRUE; Halogen-free: TRUE; Packing: Reel; Mounting Technology: Surface Mount; ComponentLink1Description: Manufacturer URL; ComponentLink1URL: http://www.infineon.com/; ComponentLink2Description: Datasheet; ComponentLink2URL: http://www.infineon.com/dgdl/TLE6280GP_DS_V20.pdf?folderId=db3a3043156fd5730116144c5d101c30&fileId=db3a304318f3fe290118f4abcb910003&location=en.Products.Automotive_ICs.Motor_Drivers__Automotive_.Gate_Driver_ICs_for_external_MOSFETs.3-Phase_Bridge_Driver_IC_.DATASHEET.TLE6280GP_DS_V20.pdf; ComponentLink3Description: Package Specification; ComponentLink3URL: http://www.infineon.com/dgdl/ITS4880R_DS_11.pdf?folderId=db3a304412b407950112b408e8c90004&fileId=db3a304412b407950112b4295fb340cf&sId=db3a30433db6f09f013dc85930135028
footprint INF-PG-DSO-36-26_N (SOP, 36-Leads, Body 15.9x11mm, Pitch 0.65mm, Thermal Pad 16x6mm, IPC Medium Density)
footprint INF-PG-DSO-36-26_L (SOP, 36-Leads, Body 15.9x11mm, Pitch 0.65mm, Thermal Pad 16x6mm, IPC High Density)
footprint INF-PG-DSO-36-26_M (SOP, 36-Leads, Body 15.9x11mm, Pitch 0.65mm, Thermal Pad 16x6mm, IPC Low Density)
pins: 1 GND (power) "Logic Ground", 2 BH1 (power) "Bootstrap supply high-side switches 1 to 3", 3 GH1 (out) "Output to gate high-side switches 1 to 3", 4 SH1 (power) "Connection to source high-side switches 1 to 3", 5 BL1 (power) "Backup capacitor connection low switches 1 to 3", 6 GL1 (out) "Output to gate low-side switches 1 to 3", 7 SL1 (power) "Connection to source low-side switches 1 to 3", 8 VS (power) "Voltage supply", 9 ~{IH1} (in) "Control inputs for high-side switches 1 to 3 (low active)", 10 IL1 (in) "Control inputs for low-side switches 1 to 3 (high active)", 11 ~{IH2} (in) "Control inputs for high-side switches 1 to 3 (low active)", 12 IL2 (in) "Control inputs for low-side switches 1 to 3 (high active)", 13 ~{IH3} (in) "Control inputs for high-side switches 1 to 3 (low active)", 14 IL3 (in) "Control inputs for low-side switches 1 to 3 (high active)", 15 MFP (in) "Multi function pin:  a) Disable the complete device by VMFP<1V  b) Program pin for output voltage level under short  circuit condition (VGxx -VSxx = 2xVMFP)  c) Enable shoot through option by VMFP>4.5V", 16 ERR (oc) "Error flag for driver supply under voltage, overtemperature and short circuit (open drain output)", 17 DT (in) "Program pin for dead time", 18 GND (power) "Logic Ground", 19 GND (power) "Logic Ground", 20 CL "Charge pump - capacitor", 21 CH "Charge pump - capacitor", 22 BH3 (power) "Bootstrap supply high-side switches 1 to 3", 23 GH3 (out) "Output to gate high-side switches 1 to 3", 24 SH3 (power) "Connection to source high-side switches 1 to 3", 25 BL3 (power) "Backup capacitor connection low switches 1 to 3", 26 GL3 (out) "Output to gate low-side switches 1 to 3", 27 SL3 (power) "Connection to source low-side switches 1 to 3", 28 BH2 (power) "Bootstrap supply high-side switches 1 to 3", 29 GH2 (out) "Output to gate high-side switches 1 to 3", 30 SH2 (power) "Connection to source high-side switches 1 to 3", 31 BL2 (power) "Backup capacitor connection low switches 1 to 3", 32 GL2 (out) "Output to gate low-side switches 1 to 3", 33 SL2 (power) "Connection to source low-side switches 1 to 3", 34 VDH (power) "Sense pin for drain voltage of the high-side Mosfets", 35 DIDT (in) "Program pin dI/dt limitation", 36 GND (power) "Logic Ground", 37 EP

## TLE6281G
designator U?
H-Bridge Driver IC, 7.5 to 60 V, 0.6 mA Iq, -40 to 150 degC, P-DSO-20-1, Reel, Green; Manufacturer: Infineon; PartNumber: TLE6281G; Adjustable dead time: TRUE; Adjustable short circuit detection: FALSE; D.C. Range: 0...96/ 100%; Diagnosis: UV, SCD, OT; Iq: 0.6 mA; Integrated OPAMPs for load current measurement: 0; Turn on/off Current: 0.85 / 0.85 A; DatasheetVersion: Rev. 2.3; PackageReference: P-DSO-20-1; PackageDescription: 20-Pin Plastic (Green) Dual Small Outline Package, Body 12.8 x 7.6 mm, Pitch 1.27 mm; Supplier 1: Mouser; Supplier Part Number 1: 726-TLE6281G; Supplier 2: Digi-Key; Supplier Part Number 2: TLE6281GTR-ND; Supplier 3: Digi-Key; Supplier Part Number 3: TLE6281GCT-ND; Supplier 4: Digi-Key; Supplier Part Number 4: TLE6281GDKR-ND; Green: TRUE; Halogen-free: TRUE; Operating Range: 7.5 to 60 V; Packing: Reel; PWM-DIR Interface: TRUE; Mounting Technology: Surface Mount; ComponentLink1Description: Manufacturer URL; ComponentLink1URL: http://www.infineon.com/; ComponentLink2Description: Datasheet; ComponentLink2URL: http://www.infineon.com/dgdl/TLE6281G_DS_Rev2.3.pdf?folderId=db3a304412b407950112b4396a6c6deb&fileId=db3a304412b407950112b4396e686df0&location=en.Products.Automotive_ICs.Motor_Drivers__Automotive_.Gate_Driver_ICs_for_external_MOSFETs.H-Bridge_and_Half_Bridge_driver_IC.DATASHEET.TLE6281G_DS_Rev2.3.pdf; ComponentLink3Description: Package Specification; ComponentLink3URL: http://www.infineon.com/dgdl/TLE6281G_DS_Rev2.3.pdf?folderId=db3a304412b407950112b4396a6c6deb&fileId=db3a304412b407950112b4396e686df0&sId=db3a30433e16edf9013e1acb87c90eeb
footprint INF-P-DSO-20-1_N (SOP, 20-Leads, Body 12.7x7.5mm, Pitch 1.27mm, IPC Medium Density)
footprint INF-P-DSO-20-1_L (SOP, 20-Leads, Body 12.7x7.5mm, Pitch 1.27mm, IPC High Density)
footprint INF-P-DSO-20-1_M (SOP, 20-Leads, Body 12.7x7.5mm, Pitch 1.27mm, IPC Low Density)
pins: 1 DT/DIS (in) "a) Set adjustable dead time by external resistor b) Reset ERx register c) Disable output stages", 2 ER1 (oc) "Error flag for driver shut down", 3 DIR (in) "Control input for spinning direction of the motor", 4 PWM (in) "Control input for PWM frequency and duty cycle", 5 SL2 (power) "Connection to source low side switch 2", 6 SL1 (power) "Connection to source low side switch 1", 7 GND (power) "Logic Ground", 8 VS (power) "Voltage supply", 9 ER2 (oc) "Warning flag Temperature / distinguish if short circuit or undervoltage lock out occurred", 10 INH (in) "Sets complete device to sleep mode to achieve low quiescent currents", 11 GL1 (out) "Output to gate low side switch 1", 12 SH1 (power) "Connection to source high side switch 1", 13 GH1 (out) "Output to gate high side switch 1", 14 BH1 (power) "Bootstrap supply high side switch 1", 15 DH1 (power) "Sense contacts for short circuit detection high side 1", 16 DH2 (power) "Sense contacts for short circuit detection high side 2", 17 BH2 (power) "Bootstrap supply high side switch 2", 18 GH2 (out) "Output to gate high side switch 2", 19 SH2 (power) "Connection to source high side switch 2", 20 GL2 (out) "Output to gate low side switch 2"

## TLE6282G
designator U?
Dual Half Bridge Driver IC, 7.5 to 60 V, 0.6 mA Iq, -40 to 150 degC, PG-DSO-20-1, Reel, Green; Manufacturer: Infineon; PartNumber: TLE6282G; Adjustable dead time: TRUE; D.C. Range: 0...96/ 100%; Diagnosis: UV, SCD, OT; Iq: 0.6 mA; Integrated OPAMPs for load current measurement: 0; PWM-DIR Interface: FALSE; Turn on/off Current: 0.85 / 0.85 A; DatasheetVersion: Rev. 2.4; PackageVersion: Rev. 2.4, 03/2008; PackageReference: PG-DSO-20-1; PackageDescription: 20-Pin Plastic (Green) Dual Small Outline Package, Body 12.8 x 7.6 mm, Pitch 1.27 mm; Supplier 1: Mouser; Supplier Part Number 1: 726-TLE6282G; Supplier 2: Newark; Supplier Part Number 2: 47W3784; Supplier 3: Farnell; Supplier Part Number 3: 2215540; Supplier 4: Digi-Key; Supplier Part Number 4: TLE6282GTR-ND; Supplier 5: Digi-Key; Supplier Part Number 5: TLE6282GCT-ND; Supplier 6: Digi-Key; Supplier Part Number 6: TLE6282GDKR-ND; Adjustable short circuit detection: TRUE; Green: TRUE; Halogen-free: TRUE; Operating Range: 7.5 to 60 V; Packing: Reel; Mounting Technology: Surface Mount; Code_JEDEC: J-STD-020; ComponentLink1Description: Manufacturer URL; ComponentLink1URL: http://www.infineon.com/; ComponentLink2Description: Datasheet; ComponentLink2URL: http://www.infineon.com/dgdl/TLE6282G_DS_Rev+2+4.pdf?folderId=db3a3043156fd5730116144c5d101c30&fileId=db3a30431d8a6b3c011d95bcd43d0837&sId=db3a30443e0c87a1013e13f9ac601d73; ComponentLink3Description: Package Specification; ComponentLink3URL: http://www.infineon.com/dgdl/TLE6282G_DS_Rev+2+4.pdf?folderId=db3a3043156fd5730116144c5d101c30&fileId=db3a30431d8a6b3c011d95bcd43d0837&sId=db3a30443e0c87a1013e13f9ac601d73
footprint INF-PG-DSO-20-1_N (SOP, 20-Leads, Body 12.8x7.6mm, Pitch 1.27mm, IPC Medium Density)
footprint INF-PG-DSO-20-1_L (SOP, 20-Leads, Body 12.8x7.6mm, Pitch 1.27mm, IPC High Density)
footprint INF-PG-DSO-20-1_M (SOP, 20-Leads, Body 12.8x7.6mm, Pitch 1.27mm, IPC Low Density)
pins: 1 DT/DIS (in) "a) Set adjustable dead time by external resistor b) Deactivate deadtime and shoot through protection by connecting to 0V c) Reset ERR register d) Disable output stages", 2 ERR (oc) "Error flag for driver shut down", 3 IH1 (in) "Control input for high side switch 1", 4 IL1 (in) "Control input for low side switch 1", 5 IH2 (in) "Control input for high side switch 2", 6 IL2 (in) "Control input for low side switch 2", 7 GND (power) "Ground", 8 VS (power) "Voltage supply", 9 DL2 (power) "Sense contact for short circuit detection low side 2", 10 DL1 (power) "Sense contact for short circuit detection low side 1", 11 GL1 (out) "Output to gate low side switch 1", 12 SH1 (power) "Connection to source high side switch 1", 13 GH1 (out) "Output to gate high side switch 1", 14 BH1 (power) "Bootstrap supply high side switch 1", 15 DH1 (power) "Sense contacts for short circuit detection high side 1", 16 DH2 (power) "Sense contacts for short circuit detection high side 2", 17 BH2 (power) "Bootstrap supply high side switch 2", 18 GH2 (out) "Output to gate high side switch 2", 19 SH2 (power) "Connection to source high side switch 2", 20 GL2 (out) "Output to gate low side switch 2"